# Altium schematic symbol library Sch_XY-MC10.SchLib: 1 symbol
Pins are listed as number, name and electrical type; pins without a type are passive.

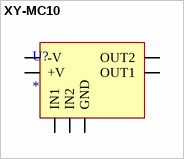
[diagram p0: symbol XY-MC10]

## XY-MC10
designator U?
footprint PCB_XY-MC10
pins: 0 -V, 1 +V, 2 IN1, 3 IN2, 4 GND, 5 OUT1, 6 OUT2